# EAGLE library part PANSTAMP (library srg)
panStamp panStamps are small wireless modules programmable from the Arduino IDE. Each module contains an Atmega328p MCU and a Texas Instruments CC1101 RF interface, providing the necessary connectivity and processing power to create autonomous low-power wireless motes. Everything contained into a compact DIP-24 module. http://www.panstamp.com Vin: 2.5 to 3.6 volts A4 - SDA A5 - SCL PWM: D3,5,6,9,10,11 Interrupts: D2,3
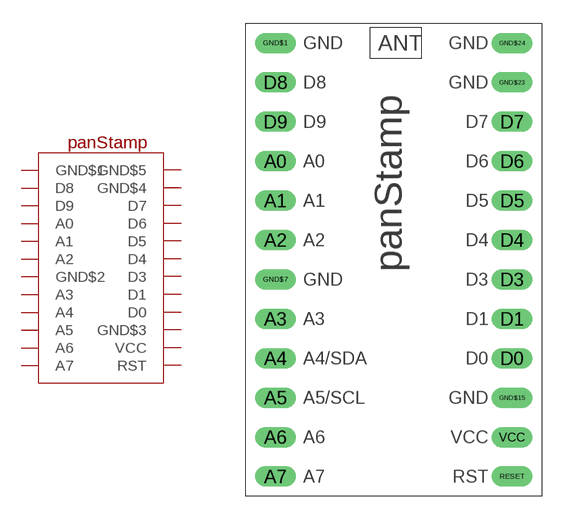
[diagram p1: symbol with the pads of PANSTAMP; footprint PANSTAMP]

Designator prefix -

## PANSTAMP  [PANSTAMP]
A0  A0
A1  A1
A2  A2
A3  A3
A4  A4
A5  A5
A6  A6
A7  A7
D0  D0
D1  D1
D3  D3
D4  D4
D5  D5
D6  D6
D7  D7
D8  D8
D9  D9
GND$1  GND$1  pwr
GND$7  GND$2  pwr
GND$15  GND$3  pwr
GND$23  GND$4  pwr
GND$24  GND$5  pwr
RESET  RST
VCC  VCC  pwr

## Footprint PANSTAMP (pad centres in mm)
panStamp http://www.panstamp.com/ panStamps are small wireless modules programmable from the Arduino IDE. Each module contains an Atmega328p MCU and a Texas Instruments CC1101 RF interface, providing the necessary connectivity and processing power to create autonomous low-power wireless motes. Everything contained into a compact DIP-24 module.
drill 0.8 long: A0 -7.62,7.62; A1 -7.62,5.08; A2 -7.62,2.54; A3 -7.62,-2.54; A4 -7.62,-5.08; A5 -7.62,-7.62; A6 -7.62,-10.16; A7 -7.62,-12.7; D0 7.62,-5.08; D1 7.62,-2.54; D3 7.62,0; D4 7.62,2.54; D5 7.62,5.08; D6 7.62,7.62; D7 7.62,10.16; D8 -7.62,12.7; D9 -7.62,10.16; GND$1 -7.62,15.24; GND$7 -7.62,0; GND$15 7.62,-7.62; GND$23 7.62,12.7; GND$24 7.62,15.24; RESET 7.62,-12.7; VCC 7.62,-10.16